# EAGLE library part LM780 (library Bluetooth)
LM780 Bluetooth Serial Data Module 25m Distance with On-Board Antenna
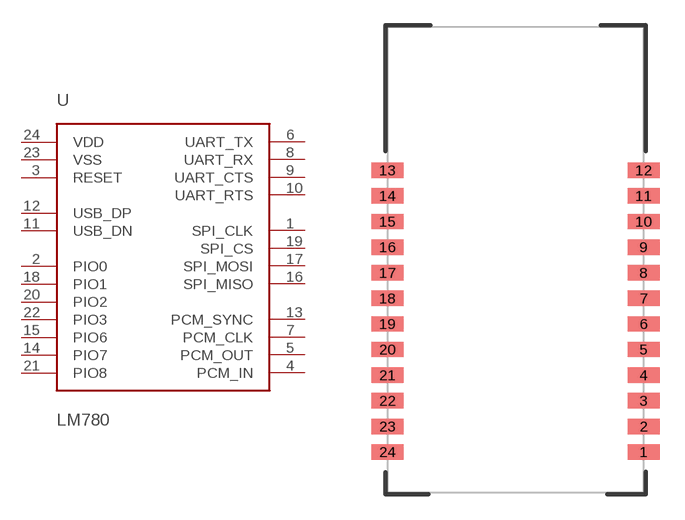
[diagram p2: symbol with the pads of LM780_PAC; footprint LM780_PAC]

Designator prefix U

## LM780  [LM780_PAC]
1  SPI_CLK
2  PIO0
3  RESET
4  PCM_IN
5  PCM_OUT
6  UART_TX
7  PCM_CLK
8  UART_RX
9  UART_CTS
10  UART_RTS
11  USB_DN
12  USB_DP
13  PCM_SYNC
14  PIO7
15  PIO6
16  SPI_MISO
17  SPI_MOSI
18  PIO1
19  SPI_CS
20  PIO2
21  PIO8
22  PIO3
23  VSS
24  VDD

## Footprint LM780_PAC (pad centres in mm)
SMD GS1011Mxx
smd 1.905 x 0.914: 1 7.62,-11.2; 2 7.62,-9.68; 3 7.62,-8.15; 4 7.62,-6.63; 5 7.62,-5.1; 6 7.62,-3.58; 7 7.62,-2.06; 8 7.62,-0.54; 9 7.62,0.99; 10 7.62,2.51; 11 7.62,4.04; 12 7.62,5.56; 13 -7.62,5.56; 14 -7.62,4.04; 15 -7.62,2.51; 16 -7.62,0.99; 17 -7.62,-0.54; 18 -7.62,-2.06; 19 -7.62,-3.58; 20 -7.62,-5.1; 21 -7.62,-6.63; 22 -7.62,-8.15; 23 -7.62,-9.68; 24 -7.62,-11.2